# EAGLE library part NC7SZ11 (library Particle)
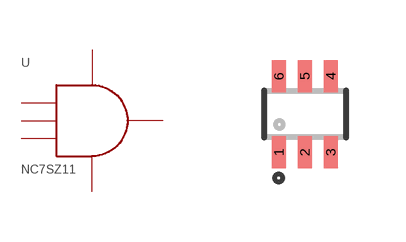
[diagram p10: symbol with the pads of SC70-6; footprint SC70-6]

Designator prefix U

## NC7SZ11  [SC70-6]
1  1  in
2  2
3  3  in
4  4  out
5  5
6  6  in

## Footprint SC70-6 (pad centres in mm)
6-Lead Thin Shrink Small Outline Transistor Package SC70 Source: http://www.analog.com/static/imported-files/data_sheets/ADA4853-1_4853-2_4853-3.pdf
smd 0.35 x 0.8: 1 -0.65,-0.95; 2 0,-0.95; 3 0.65,-0.95; 4 0.65,0.95; 5 0,0.95; 6 -0.65,0.95